# EAGLE library part MAT04 (library LMV358)
Matched Monolithic Quad Transistor Source: http://www.analog.com/static/imported-files/data_sheets/MAT04.pdf
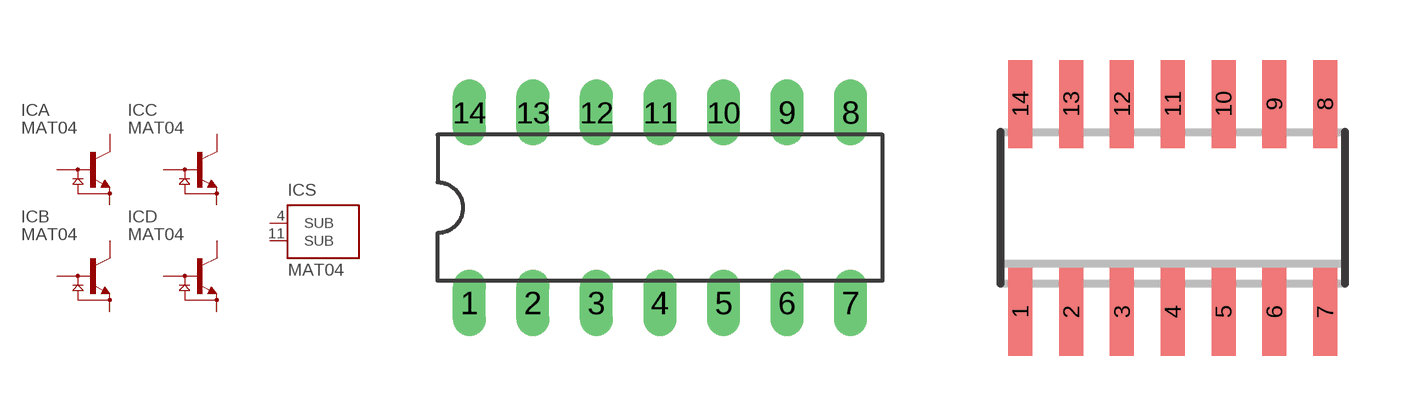
[diagram p140: symbol with the pads of DIL14; footprints DIL14, SO14]

Designator prefix IC; gates A=NPN+DIODE B=NPN+DIODE C=NPN+DIODE D=NPN+DIODE S=SUB

## MAT04P (OC_FARNELL: 1465698; OC_NEWARK: unknown)  [DIL14]
1  A:C  pas
2  A:B  pas
3  A:E  pas
4  S:SUB  pas
5  B:E  pas
6  B:B  pas
7  B:C  pas
8  C:C  pas
9  C:B  pas
10  C:E  pas
11  S:SUB  pas
12  D:E  pas
13  D:B  pas
14  D:C  pas

## MAT04S (MPN: MAT04FS; OC_FARNELL: unknown; OC_NEWARK: 66F5730)  [SO14]
Pads as for DIL14

## Footprint DIL14 (pad centres in mm)
Dual In Line Package
drill 0.813 long: 1 -7.62,-3.81; 2 -5.08,-3.81; 3 -2.54,-3.81; 4 0,-3.81; 5 2.54,-3.81; 6 5.08,-3.81; 7 7.62,-3.81; 8 7.62,3.81; 9 5.08,3.81; 10 2.54,3.81; 11 0,3.81; 12 -2.54,3.81; 13 -5.08,3.81; 14 -7.62,3.81

## Footprint SO14 (pad centres in mm)
14-Lead Narrow-Body SOIC (SO-14) Source: http://www.analog.com/static/imported-files/data_sheets/SSM2166.pdf
smd 0.6 x 2.2: 1 -3.81,-2.6; 2 -2.54,-2.6; 3 -1.27,-2.6; 4 0,-2.6; 5 1.27,-2.6; 6 2.54,-2.6; 7 3.81,-2.6; 8 3.81,2.6; 9 2.54,2.6; 10 1.27,2.6; 11 0,2.6; 12 -1.27,2.6; 13 -2.54,2.6; 14 -3.81,2.6